# EAGLE library part 24AA* (library bardiir)
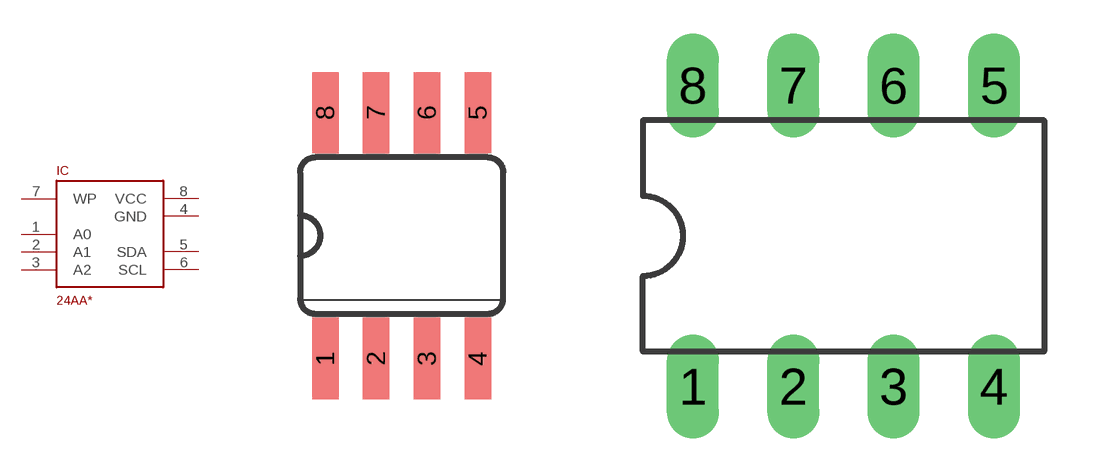
[diagram p3: symbol with the pads of SO08; footprints SO08, DIP08]

Designator prefix IC

## 24AA1026-I/SN (VALUE: 1mbit), 24AA128-I/SN (VALUE: 128kbit), 24AA256-I/SN (VALUE: 256kbit)  [SO08]
1  A0
2  A1
3  A2
4  GND
5  SDA
6  SCL
7  WP
8  VCC

## 24AA1026-I/P (VALUE: 1mbit), 24AA128-I/P (VALUE: 128kbit), 24AA256-I/P (VALUE: 256kbit)  [DIP08]
Pads as for SO08

## Footprint SO08 (pad centres in mm)
smd 0.66 x 2.032: 1 -1.905,-3.073; 2 -0.635,-3.073; 3 0.635,-3.073; 4 1.905,-3.073; 5 1.905,3.073; 6 0.635,3.073; 7 -0.635,3.073; 8 -1.905,3.073

## Footprint DIP08 (pad centres in mm)
drill 0.813 long: 1 -3.81,-3.81; 2 -1.27,-3.81; 3 1.27,-3.81; 4 3.81,-3.81; 5 3.81,3.81; 6 1.27,3.81; 7 -1.27,3.81; 8 -3.81,3.81